# Altium footprint library Fasteners & Fixings.PcbLib: 118 footprints (part 7 of 8)
Each footprint in its own frame and in the unit in brackets; x right, y up, seen from the top. Pads: shape width x height; smd on the part's side, far side on the other; paste and mask are expansions set on the pad; w line width, h text height; cw(c..) or ccw(c..) is an arc to the next point about the centre after c.
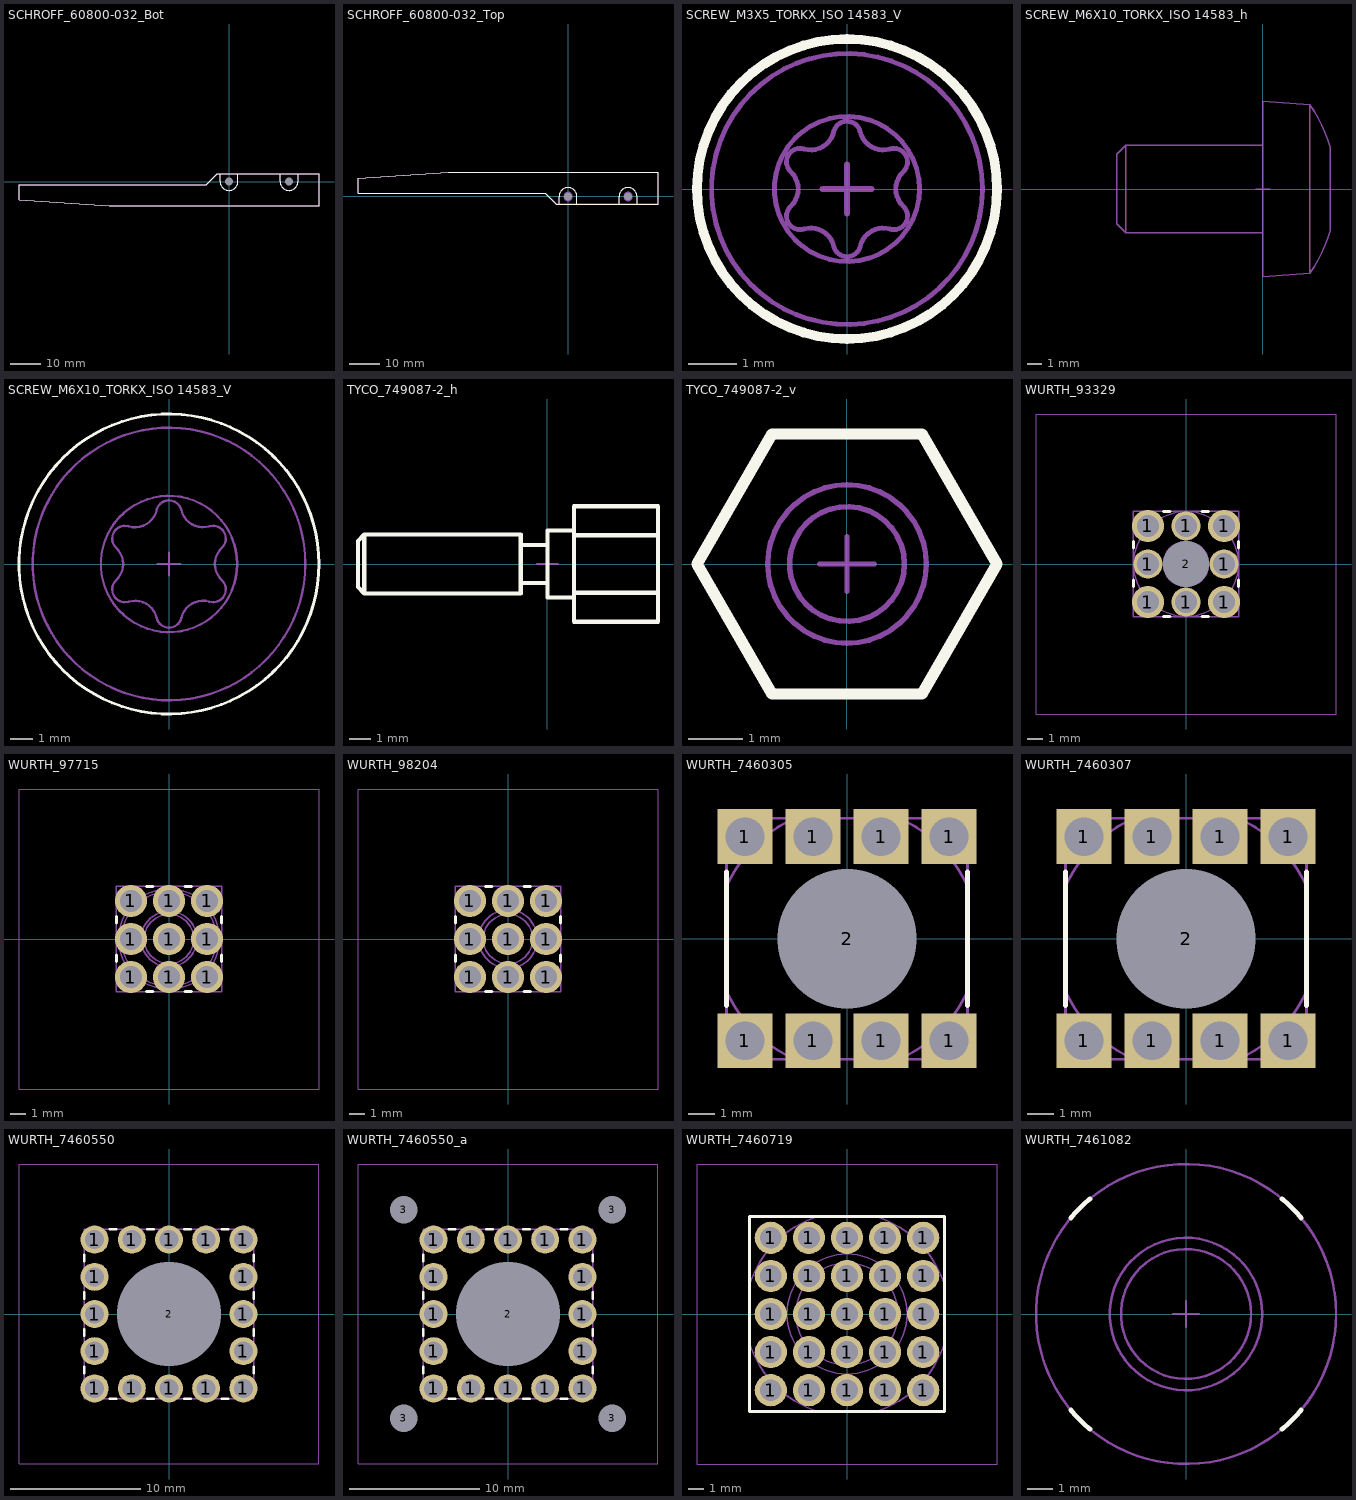
[diagram p6: the footprints below, top view; thin cyan lines are the x and y axes]

## SCHROFF_60800-032_Bot [mm] "Short Guide Rail (100mm)  Without Locking Lever"
height 9.8
pads (2):
  round 1 hole 2.8 unplated mask+0.9: 1(0,0) 1(20,0)
Top Overlay:
  lines w0.2: -3,2.5 -3,0 ccw(c0,0) 3,0 3,2.5 ; 17,2.5 17,0 ccw(c20,0) 23,0 23,2.5 ; -70,-6 -70,-1 -7.5,-1 -4,2.5 30,2.5 30,-8 -40,-8 -70,-6
Mechanical 8:
  lines w0.1: -0.5,0 0,0 ; 0,-0.5 0,0 ; 0,0.5 0,0 ; 0.5,0 0,0 ; 19.5,0 20,0 ; 20,-0.5 20,0 ; 20,0.5 20,0 ; 20.5,0 20,0
Mechanical 14:
  lines w0.1: -3,2.5 -3,0 ccw(c0,0) 3,0 3,2.5 ; 17,2.5 17,0 ccw(c20,0) 23,0 23,2.5 ; -70,-6 -70,-1 -7.5,-1 -4,2.5 30,2.5 30,-8 -40,-8 -70,-6
3D body "SCHROFF_60800-032_Bot.stp": height 4.1, standoff -5.9, extent -70,-8 30,2.5

## SCHROFF_60800-032_Top [mm] "Short Guide Rail (100mm)  Without Locking Lever"
height 9.8
pads (2):
  round 1 hole 2.8 unplated mask+0.9: 1(0,0) 1(20,0)
Top Overlay:
  lines w0.2: -3,-2.5 -3,0 cw(c0,0) 3,0 3,-2.5 ; 17,-2.5 17,0 cw(c20,0) 23,0 23,-2.5 ; -70,1 -7.5,1 -4,-2.5 30,-2.5 30,8 -40,8 -70,6 -70,1
Mechanical 8:
  lines w0.1: -0.5,0 0,0 ; 0,-0.5 0,0 ; 0,0.5 0,0 ; 0.5,0 0,0 ; 19.5,0 20,0 ; 20,-0.5 20,0 ; 20,0.5 20,0 ; 20.5,0 20,0
Mechanical 14:
  circle w0.1: c20,0 r1.4
  circle w0.1: c0,0 r1.4
  lines w0.1: -3,-2.5 -3,0 cw(c0,0) 3,0 3,-2.5 ; 17,-2.5 17,0 cw(c20,0) 23,0 23,-2.5 ; -70,1 -7.5,1 -4,-2.5 30,-2.5 30,8 -40,8 -70,6 -70,1
3D body "SCHROFF_60800-032_Top.stp": height 4.1, standoff -5.9, extent -70,-2.5 30,8

## SCREW_M3X5_TORKX_ISO 14583_V [mm] "Vis TORKX M3X5 ISO 14583 - Vertical Mounting"
height 10
Top Overlay:
  circle w0.2: c0,0 r3.1
Mechanical 8:
  lines w0.127: -0.5,0 0,0 ; 0,-0.5 0,0 ; 0,0.5 0,0 ; 0.5,0 0,0
Mechanical 14:
  circle w0.1: c0,0 r2.8
  circle w0.1: c0,0 r1.5
  lines w0.1: -1.162,-0.356 ccw(c-1.498,0) -1.162,0.356 cw(c-0.97,0.56) -0.89,0.828 ccw(c-0.749,1.298) -0.267,1.21 cw(c-0.001,1.119) 0.272,1.186 ccw(c0.749,1.298) 0.89,0.828 cw(c0.97,0.56) 1.162,0.356 ccw(c1.498,0) 1.162,-0.356 cw(c0.97,-0.56) 0.887,-0.828 ccw(c0.749,-1.298) 0.272,-1.185 cw(c0,-1.12) -0.272,-1.185 ccw(c-0.749,-1.298) -0.89,-0.828 cw(c-0.97,-0.56) -1.162,-0.356
3D body "SCREW_M3X5_TORKX_ISO 14583_v.stp": height 2.4, standoff -5, extent -2.8,-2.8 2.8,2.8

## SCREW_M6X10_TORKX_ISO 14583_h [mm] "Vis TORKX M6X10 ISO 14583 - Horizontal Mount"
height 12
Mechanical 8:
  lines w0.1: -0.5,0 0,0 ; 0,-0.5 0,0 ; 0,0.5 0,0 ; 0.5,0 0,0
Mechanical 14:
  lines w0.1: 0,-3 -9.387,-3 ; 0,3 -9.387,3 ; -9.387,-3 -9.387,3 ; -9.387,-3 -10,-2.387 -10,2.387 -9.387,3 ; 3.225,-5.775 ccw(c-5.257,0) 4.6,-2.85 4.6,2.85 ccw(c-5.257,0) 3.225,5.775 ; 3.225,-5.775 3.225,5.775 ; 3.225,-5.775 0,-6 0,6 3.225,5.775
3D body "SCREW_M6X10_TORKX_ISO 14583_h.stp": height 6, standoff -6, extent -10,-6 4.6,6

## SCREW_M6X10_TORKX_ISO 14583_V [mm] "Vis TORKX M6X10 ISO 14583 - Vertical Mounting"
height 10
Top Overlay:
  circle w0.127: c0,0 r6.6
Mechanical 8:
  lines w0.1: -0.5,0 0,0 ; 0,-0.5 0,0 ; 0,0.5 0,0 ; 0.5,0 0,0
Mechanical 14:
  circle w0.1: c0,0 r6
  circle w0.1: c0,0 r3
  lines w0.1: -2.324,-0.713 ccw(c-2.997,0) -2.324,0.713 cw(c-1.94,1.12) -1.779,1.656 ccw(c-1.498,2.595) -0.534,2.421 cw(c-0.002,2.237) 0.544,2.372 ccw(c1.498,2.595) 1.779,1.656 cw(c1.94,1.12) 2.324,0.713 ccw(c2.997,0) 2.324,-0.713 cw(c1.94,-1.12) 1.774,-1.655 ccw(c1.499,-2.596) 0.545,-2.369 cw(c0,-2.24) -0.545,-2.369 ccw(c-1.498,-2.595) -1.779,-1.656 cw(c-1.94,-1.12) -2.324,-0.713
3D body "VIS_M6X10_TORKX_BN5687_3061952.stp": height 4.6, standoff -10, extent -6,-6 6,6

## TYCO_749087-2_h [mm] "D-Sub Female Screw Locks : Thread Length= 4.39mm, Thread Size: Socket UNC 2-56, Screw UNC 4-40"
height 5.48
Top Overlay:
  lines w0.2: -1.27,-0.9 0,-0.9 ; -1.27,0.9 0,0.9 ; 1.27,-1.6 0,-1.6 0,1.6 1.27,1.6 ; 1.27,-1.371 5.26,-1.371 ; 1.27,1.371 5.26,1.371 ; -8.71,-1.4 -8.71,1.4 ; -8.71,-1.4 -9.01,-1.1 -9.01,1.1 -8.71,1.4 ; -8.71,-1.4 -1.27,-1.4 -1.27,1.4 -8.71,1.4 ; 1.27,-2.742 1.27,2.742 5.26,2.742 5.26,-2.742 1.27,-2.742
Mechanical 8:
  lines w0.1: -0.5,0 0,0 0.5,0
Mechanical 14:
  lines w0.1: -1.27,-0.9 0,-0.9 ; -1.27,0.9 0,0.9 ; 1.27,-1.6 0,-1.6 0,1.6 1.27,1.6 ; 1.27,-1.371 5.26,-1.371 ; 1.27,1.371 5.26,1.371 ; -8.71,-1.4 -8.71,1.4 ; -8.71,-1.4 -9.01,-1.1 -9.01,1.1 -8.71,1.4 ; -8.71,-1.4 -1.27,-1.4 -1.27,1.4 -8.71,1.4 ; 1.27,-2.742 1.27,2.742 5.26,2.742 5.26,-2.742 1.27,-2.742
3D body "TYCO_749087-2_h.stp": height 2.37, standoff -2.37, extent -9.01,-2.742 5.26,2.742

## TYCO_749087-2_v [mm] "D-Sub Female Screw Locks : Thread Length= 4.39mm, Thread Size: Socket UNC 2-56, Screw UNC 4-40"
height 5.26
Top Overlay:
  lines w0.2: -2.742,0 -1.371,2.375 1.371,2.375 2.742,0 1.371,-2.375 -1.371,-2.375 -2.742,0
Mechanical 8:
  lines w0.1: -0.5,0 0,0 ; 0,-0.5 0,0 ; 0,0.5 0,0 ; 0.5,0 0,0
Mechanical 14:
  circle w0.1: c0,0 r1.05
  circle w0.1: c0,0 r1.45
  lines w0.1: -2.742,0 -1.371,2.375 1.371,2.375 2.742,0 1.371,-2.375 -1.371,-2.375 -2.742,0
3D body "TYCO_749087-2_v.stp": height 5.26, standoff -9.01, extent -2.742,-2.375 2.743,2.375

## WURTH_93329 [mm] "7x7x3mm. Bush With Threaded Hole M3, Full Plain Pin-Plate (To Be Used With Pressfit Tool)"
height 3
pads (9):
  round 2.15 hole 1.45: 1(-2.54,-2.54) 1(-2.54,2.54) 1(2.54,-2.54) 1(2.54,2.54)
  round 1.95 hole 1.45: 1(-2.54,0) 1(0,-2.54) 1(0,2.54) 1(2.54,0)
  round 1 hole 3.1 unplated mask+1.05: 2(0,0)
Top Overlay:
  lines w0.2: -3.5,-1.487 -3.5,-1.053 ; -3.5,1.053 -3.5,1.487 ; -1.487,-3.5 -1.053,-3.5 ; -1.487,3.5 -1.053,3.5 ; 1.053,-3.5 1.487,-3.5 ; 1.053,3.5 1.487,3.5 ; 3.5,-1.487 3.5,-1.053 ; 3.5,1.053 3.5,1.487
Bottom Overlay:
  lines w0.2: -10,-10 -10,10 10,10 10,-10 -10,-10
Mechanical 8:
  lines w0.1: -3.04,-2.54 -2.54,-2.54 ; -3.04,0 -2.54,0 ; -3.04,2.54 -2.54,2.54 ; -2.54,-3.04 -2.54,-2.54 ; -2.54,-2.04 -2.54,-2.54 ; -2.54,-0.5 -2.54,0 ; -2.54,0.5 -2.54,0 ; -2.54,2.04 -2.54,2.54 ; -2.54,3.04 -2.54,2.54 ; -2.04,-2.54 -2.54,-2.54 ; -2.04,0 -2.54,0 ; -2.04,2.54 -2.54,2.54 ; -0.5,-2.54 0,-2.54 ; -0.5,0 0,0 ; -0.5,2.54 0,2.54 ; 0,-3.04 0,-2.54 ; 0,-2.04 0,-2.54 ; 0,-0.5 0,0 ; 0,0.5 0,0 ; 0,2.04 0,2.54 ; 0,3.04 0,2.54 ; 0.5,-2.54 0,-2.54 ; 0.5,0 0,0 ; 0.5,2.54 0,2.54 ; 2.04,-2.54 2.54,-2.54 ; 2.04,0 2.54,0 ; 2.04,2.54 2.54,2.54 ; 2.54,-3.04 2.54,-2.54 ; 2.54,-2.04 2.54,-2.54 ; 2.54,-0.5 2.54,0 ; 2.54,0.5 2.54,0 ; 2.54,2.04 2.54,2.54 ; 2.54,3.04 2.54,2.54 ; 3.04,-2.54 2.54,-2.54 ; 3.04,0 2.54,0 ; 3.04,2.54 2.54,2.54
Mechanical 14:
  circle w0.1: c0,0 r1.25
  circle w0.1: c0,0 r1.5
  circle w0.1: c0,0 r3.5
  lines w0.1: -3.5,-3.5 3.5,-3.5 3.5,3.5 -3.5,3.5 -3.5,-3.5
Mechanical 16:
  lines w0.05: -10,-10 -10,10 10,10 10,-10 -10,-10
Drill Drawing:
  lines w0.1: -3.5,-3.5 3.5,-3.5 3.5,3.5 -3.5,3.5 -3.5,-3.5
  text "+0.075 -0.025" at -5.397,-6.35 h1
  text "PRESS-FIT TECH." at -5.715,4.445 h1
  text "diam. 1.45mm" at -4.763,-4.763 h1
3D body "WURTH_93329.stp": height 3, standoff -3.5, extent -3.5,-3.5 3.5,3.5

## WURTH_97715 [mm] "6.7mm Diameter x13mm, M4 Bush, Full Plain Pin-Plate (To Be Used With Pressfit Tool)"
height 13
pads (9):
  round 2.15 hole 1.45: 1(-2.54,-2.54) 1(-2.54,0) 1(-2.54,2.54) 1(0,-2.54) 1(0,0) 1(0,2.54) 1(2.54,-2.54) 1(2.54,0) 1(2.54,2.54)
Top Overlay:
  lines w0.2: -3.5,-1.487 -3.5,-1.053 ; -3.5,1.053 -3.5,1.487 ; -1.487,-3.5 -1.053,-3.5 ; -1.487,3.5 -1.053,3.5 ; 1.053,-3.5 1.487,-3.5 ; 1.053,3.5 1.487,3.5 ; 3.5,-1.487 3.5,-1.053 ; 3.5,1.053 3.5,1.487
Bottom Overlay:
  lines w0.2: -10,-10 -10,10 10,10 10,-10 -10,-10
Mechanical 8:
  lines w0.1: -3.04,-2.54 -2.54,-2.54 ; -3.04,0 -2.54,0 ; -3.04,2.54 -2.54,2.54 ; -2.54,-3.04 -2.54,-2.54 ; -2.54,-2.04 -2.54,-2.54 ; -2.54,-0.5 -2.54,0 ; -2.54,0.5 -2.54,0 ; -2.54,2.04 -2.54,2.54 ; -2.54,3.04 -2.54,2.54 ; -2.04,-2.54 -2.54,-2.54 ; -2.04,0 -2.54,0 ; -2.04,2.54 -2.54,2.54 ; -0.5,-2.54 0,-2.54 ; -0.5,0 0,0 ; -0.5,2.54 0,2.54 ; 0,-3.04 0,-2.54 ; 0,-2.04 0,-2.54 ; 0,-0.5 0,0 ; 0,0.5 0,0 ; 0,2.04 0,2.54 ; 0,3.04 0,2.54 ; 0.5,-2.54 0,-2.54 ; 0.5,0 0,0 ; 0.5,2.54 0,2.54 ; 2.04,-2.54 2.54,-2.54 ; 2.04,0 2.54,0 ; 2.04,2.54 2.54,2.54 ; 2.54,-3.04 2.54,-2.54 ; 2.54,-2.04 2.54,-2.54 ; 2.54,-0.5 2.54,0 ; 2.54,0.5 2.54,0 ; 2.54,2.04 2.54,2.54 ; 2.54,3.04 2.54,2.54 ; 3.04,-2.54 2.54,-2.54 ; 3.04,0 2.54,0 ; 3.04,2.54 2.54,2.54
Mechanical 14:
  circle w0.1: c0,0 r3.35
  circle w0.1: c0,0 r3.15
  circle w0.1: c0,0 r1.85
  circle w0.1: c0,0 r1.65
  lines w0.1: -3.5,-3.5 -3.5,3.5 3.5,3.5 3.5,-3.5 -3.5,-3.5
Mechanical 16:
  lines w0.05: -10,-10 -10,10 10,10 10,-10 -10,-10
Drill Drawing:
  lines w0.1: -3.5,-3.5 3.5,-3.5 3.5,3.5 -3.5,3.5 -3.5,-3.5
  text "+0.075 -0.025" at -5.397,-6.35 h1
  text "PRESS-FIT TECH." at -5.715,4.445 h1
  text "diam. 1.45mm" at -4.763,-4.763 h1
3D body "WURTH_97715.stp": height 13, standoff -3.5, extent -3.5,-3.5 3.5,3.5

## WURTH_98204 [mm] "7x7x14mm, M4 Bush, Full Plain Pin-Plate (To Be Used With Pressfit Tool)"
height 14
pads (9):
  round 2.15 hole 1.45: 1(-2.54,-2.54) 1(-2.54,0) 1(-2.54,2.54) 1(0,-2.54) 1(0,0) 1(0,2.54) 1(2.54,-2.54) 1(2.54,0) 1(2.54,2.54)
Top Overlay:
  lines w0.2: -3.5,-1.487 -3.5,-1.053 ; -3.5,1.053 -3.5,1.487 ; -1.487,-3.5 -1.053,-3.5 ; -1.487,3.5 -1.053,3.5 ; 1.053,-3.5 1.487,-3.5 ; 1.053,3.5 1.487,3.5 ; 3.5,-1.487 3.5,-1.053 ; 3.5,1.053 3.5,1.487
Bottom Overlay:
  lines w0.2: -10,-10 10,-10 10,10 -10,10 -10,-10
Mechanical 8:
  lines w0.1: -3.04,-2.54 -2.54,-2.54 ; -3.04,0 -2.54,0 ; -3.04,2.54 -2.54,2.54 ; -2.54,-3.04 -2.54,-2.54 ; -2.54,-2.04 -2.54,-2.54 ; -2.54,-0.5 -2.54,0 ; -2.54,0.5 -2.54,0 ; -2.54,2.04 -2.54,2.54 ; -2.54,3.04 -2.54,2.54 ; -2.04,-2.54 -2.54,-2.54 ; -2.04,0 -2.54,0 ; -2.04,2.54 -2.54,2.54 ; -0.5,-2.54 0,-2.54 ; -0.5,0 0,0 ; -0.5,2.54 0,2.54 ; 0,-3.04 0,-2.54 ; 0,-2.04 0,-2.54 ; 0,-0.5 0,0 ; 0,0.5 0,0 ; 0,2.04 0,2.54 ; 0,3.04 0,2.54 ; 0.5,-2.54 0,-2.54 ; 0.5,0 0,0 ; 0.5,2.54 0,2.54 ; 2.04,-2.54 2.54,-2.54 ; 2.04,0 2.54,0 ; 2.04,2.54 2.54,2.54 ; 2.54,-3.04 2.54,-2.54 ; 2.54,-2.04 2.54,-2.54 ; 2.54,-0.5 2.54,0 ; 2.54,0.5 2.54,0 ; 2.54,2.04 2.54,2.54 ; 2.54,3.04 2.54,2.54 ; 3.04,-2.54 2.54,-2.54 ; 3.04,0 2.54,0 ; 3.04,2.54 2.54,2.54
Mechanical 14:
  circle w0.1: c0,0 r1.95
  circle w0.1: c0,0 r1.65
  lines w0.1: -3.5,-3.5 -3.5,3.5 3.5,3.5 3.5,-3.5 -3.5,-3.5
Mechanical 16:
  lines w0.05: -10,-10 10,-10 10,10 -10,10 -10,-10
Drill Drawing:
  lines w0.1: -3.5,-3.5 -3.5,3.5 3.5,3.5 3.5,-3.5 -3.5,-3.5
  text "diam. 1.45mm" at -4.763,-4.763 h1
  text "PRESS-FIT TECH." at -5.715,4.445 h1
  text "+0.075 -0.025" at -5.397,-6.35 h1
3D body "WURTH_98204.stp": height 14, standoff -3.5, extent -3.5,-3.5 3.5,3.5

## WURTH_7460305 [mm] "9x9x7mm, M5 Bushe With Two Rows Pin-Plate"
height 7
pads (9):
  rect 2.05x2.05 hole 1.45: 1(-3.81,-3.81) 1(-3.81,3.81) 1(-1.27,-3.81) 1(-1.27,3.81) 1(1.27,-3.81) 1(1.27,3.81) 1(3.81,-3.81) 1(3.81,3.81)
  round 1 hole 5.2 unplated mask+2.1: 2(0,0)
Top Overlay:
  lines w0.2: -4.5,-2.478 -4.5,2.478 ; 4.5,-2.478 4.5,2.478
Mechanical 8:
  lines w0.1: -4.31,-3.81 -3.81,-3.81 ; -4.31,3.81 -3.81,3.81 ; -3.81,-4.31 -3.81,-3.81 ; -3.81,-3.31 -3.81,-3.81 ; -3.81,3.31 -3.81,3.81 ; -3.81,4.31 -3.81,3.81 ; -3.31,-3.81 -3.81,-3.81 ; -3.31,3.81 -3.81,3.81 ; -1.77,-3.81 -1.27,-3.81 ; -1.77,3.81 -1.27,3.81 ; -1.27,-4.31 -1.27,-3.81 ; -1.27,-3.31 -1.27,-3.81 ; -1.27,3.31 -1.27,3.81 ; -1.27,4.31 -1.27,3.81 ; -0.77,-3.81 -1.27,-3.81 ; -0.77,3.81 -1.27,3.81 ; -0.5,0 0,0 ; 0,-0.5 0,0 ; 0,0.5 0,0 ; 0.5,0 0,0 ; 0.77,-3.81 1.27,-3.81 ; 0.77,3.81 1.27,3.81 ; 1.27,-4.31 1.27,-3.81 ; 1.27,-3.31 1.27,-3.81 ; 1.27,3.31 1.27,3.81 ; 1.27,4.31 1.27,3.81 ; 1.77,-3.81 1.27,-3.81 ; 1.77,3.81 1.27,3.81 ; 3.31,-3.81 3.81,-3.81 ; 3.31,3.81 3.81,3.81 ; 3.81,-4.31 3.81,-3.81 ; 3.81,-3.31 3.81,-3.81 ; 3.81,3.31 3.81,3.81 ; 3.81,4.31 3.81,3.81 ; 4.31,-3.81 3.81,-3.81 ; 4.31,3.81 3.81,3.81
Mechanical 14:
  circle w0.1: c0,0 r2.5
  lines w0.1: -4.5,-1.936 ccw(c0,0) -1.936,-4.5 ; -4.5,1.936 cw(c0,0) -1.936,4.5 ; 0,-2.1 cw(c0,0) 2.1,0 ; 1.936,-4.5 ccw(c0,0) 4.5,-1.936 ; 1.936,4.5 cw(c0,0) 4.5,1.936 ; 2.5,4.5 4.5,4.5 ; 4.5,2.5 4.5,4.5 ; 4.5,4.5 -4.5,4.5 -4.5,-4.5 4.5,-4.5 4.5,4.5
Drill Drawing:
  lines w0.1: -5.6,-5.12 5.6,-5.12 5.6,5.1 -5.6,5.1 -5.6,1.5 4.2,1.5 4.2,-1.6 -5.6,-1.6 -5.6,-5.12
  text "PRESS-FIT TECH." at -5.6,5.4 h1
  text "diam. 1.45mm" at -4.9,1.8 h1
  text "+0.075 -0.025" at -5.3,-2.9 h1
3D body "WURTH_7460305.stp": height 7, standoff -3.5, extent -4.5,-4.5 4.5,4.5

## WURTH_7460307 [mm] "9x9x7mm, M4 Bushe With Two Rows Pin-Plate"
height 7
pads (9):
  rect 2.05x2.05 hole 1.45: 1(-3.81,-3.81) 1(-3.81,3.81) 1(-1.27,-3.81) 1(-1.27,3.81) 1(1.27,-3.81) 1(1.27,3.81) 1(3.81,-3.81) 1(3.81,3.81)
  round 1 hole 5.2 unplated mask+2.1: 2(0,0)
Top Overlay:
  lines w0.2: -4.5,-2.478 -4.5,2.478 ; 4.5,-2.478 4.5,2.478
Mechanical 8:
  lines w0.1: -4.31,-3.81 -3.81,-3.81 ; -4.31,3.81 -3.81,3.81 ; -3.81,-4.31 -3.81,-3.81 ; -3.81,-3.31 -3.81,-3.81 ; -3.81,3.31 -3.81,3.81 ; -3.81,4.31 -3.81,3.81 ; -3.31,-3.81 -3.81,-3.81 ; -3.31,3.81 -3.81,3.81 ; -1.77,-3.81 -1.27,-3.81 ; -1.77,3.81 -1.27,3.81 ; -1.27,-4.31 -1.27,-3.81 ; -1.27,-3.31 -1.27,-3.81 ; -1.27,3.31 -1.27,3.81 ; -1.27,4.31 -1.27,3.81 ; -0.77,-3.81 -1.27,-3.81 ; -0.77,3.81 -1.27,3.81 ; -0.5,0 0,0 ; 0,-0.5 0,0 ; 0,0.5 0,0 ; 0.5,0 0,0 ; 0.77,-3.81 1.27,-3.81 ; 0.77,3.81 1.27,3.81 ; 1.27,-4.31 1.27,-3.81 ; 1.27,-3.31 1.27,-3.81 ; 1.27,3.31 1.27,3.81 ; 1.27,4.31 1.27,3.81 ; 1.77,-3.81 1.27,-3.81 ; 1.77,3.81 1.27,3.81 ; 3.31,-3.81 3.81,-3.81 ; 3.31,3.81 3.81,3.81 ; 3.81,-4.31 3.81,-3.81 ; 3.81,-3.31 3.81,-3.81 ; 3.81,3.31 3.81,3.81 ; 3.81,4.31 3.81,3.81 ; 4.31,-3.81 3.81,-3.81 ; 4.31,3.81 3.81,3.81
Mechanical 14:
  circle w0.1: c0,0 r2.5
  lines w0.1: -4.5,-1.936 ccw(c0,0) -1.936,-4.5 ; -4.5,1.936 cw(c0,0) -1.936,4.5 ; 0,-2.1 cw(c0,0) 2.1,0 ; 1.936,-4.5 ccw(c0,0) 4.5,-1.936 ; 1.936,4.5 cw(c0,0) 4.5,1.936 ; 2.5,4.5 4.5,4.5 ; 4.5,2.5 4.5,4.5 ; 4.5,4.5 4.5,-4.5 -4.5,-4.5 -4.5,4.5 4.5,4.5
Drill Drawing:
  lines w0.1: -5.6,-5.12 -5.6,-1.6 4.2,-1.6 4.2,1.5 -5.6,1.5 -5.6,5.1 5.6,5.1 5.6,-5.12 -5.6,-5.12
  text "PRESS-FIT TECH." at -5.6,5.4 h1
  text "diam. 1.45mm" at -4.9,1.8 h1
  text "+/-0.05" at -3.4,-2.9 h1
3D body "WURTH_7460307.stp": height 7, standoff -3.5, extent -4.5,-4.5 4.5,4.5

## WURTH_7460550 [mm] "13x13x3.1mm, Bush With 7.3mm Hole Diameter, 16 Plain Pin-Plate (To Be Used With Pressfit Tool)"
height 3.1
pads (17):
  round 2.15 hole 1.45: 1(-5.7,-5.7) 1(-5.7,-2.85) 1(-5.7,0) 1(-5.7,2.85) 1(-5.7,5.7) 1(-2.85,-5.7) 1(-2.85,5.7) 1(0,-5.7) 1(0,5.7) 1(2.85,-5.7) 1(2.85,5.7) 1(5.7,-5.7) 1(5.7,-2.85) 1(5.7,0) 1(5.7,2.85) 1(5.7,5.7)
  round 1 hole 8 unplated mask+3.5: 2(0,0)
Top Overlay:
  lines w0.2: -6.5,-4.521 -6.5,-4.029 ; -6.5,-1.671 -6.5,-1.179 ; -6.5,1.179 -6.5,1.671 ; -6.5,4.029 -6.5,4.521 ; -4.521,-6.5 -4.029,-6.5 ; -4.521,6.5 -4.029,6.5 ; -1.671,-6.5 -1.179,-6.5 ; -1.671,6.5 -1.179,6.5 ; 1.179,-6.5 1.671,-6.5 ; 1.179,6.5 1.671,6.5 ; 4.029,-6.5 4.521,-6.5 ; 4.029,6.5 4.521,6.5 ; 6.5,-4.521 6.5,-4.029 ; 6.5,-1.671 6.5,-1.179 ; 6.5,1.179 6.5,1.671 ; 6.5,4.029 6.5,4.521
Bottom Overlay:
  lines w0.2: -11.5,-11.5 -11.5,11.5 11.5,11.5 11.5,-11.5 -11.5,-11.5
Mechanical 8:
  circle w0.1: c0,0 r3.75
  lines w0.1: -6.2,-5.7 -5.7,-5.7 ; -6.2,-2.85 -5.7,-2.85 ; -6.2,0 -5.7,0 ; -6.2,2.85 -5.7,2.85 ; -6.2,5.7 -5.7,5.7 ; -5.7,-6.2 -5.7,-5.7 ; -5.7,-5.2 -5.7,-5.7 ; -5.7,-3.35 -5.7,-2.85 ; -5.7,-2.35 -5.7,-2.85 ; -5.7,-0.5 -5.7,0 ; -5.7,0.5 -5.7,0 ; -5.7,2.35 -5.7,2.85 ; -5.7,3.35 -5.7,2.85 ; -5.7,5.2 -5.7,5.7 ; -5.7,6.2 -5.7,5.7 ; -5.2,-5.7 -5.7,-5.7 ; -5.2,-2.85 -5.7,-2.85 ; -5.2,0 -5.7,0 ; -5.2,2.85 -5.7,2.85 ; -5.2,5.7 -5.7,5.7 ; -3.35,-5.7 -2.85,-5.7 ; -3.35,5.7 -2.85,5.7 ; -2.85,-6.2 -2.85,-5.7 ; -2.85,-5.2 -2.85,-5.7 ; -2.85,5.2 -2.85,5.7 ; -2.85,6.2 -2.85,5.7 ; -2.35,-5.7 -2.85,-5.7 ; -2.35,5.7 -2.85,5.7 ; -0.5,-5.7 0,-5.7 ; -0.5,0 0,0 ; -0.5,5.7 0,5.7 ; 0,-6.2 0,-5.7 ; 0,-5.2 0,-5.7 ; 0,-0.5 0,0 ; 0,0.5 0,0 ; 0,5.2 0,5.7 ; 0,6.2 0,5.7 ; 0.5,-5.7 0,-5.7 ; 0.5,0 0,0 ; 0.5,5.7 0,5.7 ; 2.35,-5.7 2.85,-5.7 ; 2.35,5.7 2.85,5.7 ; 2.85,-6.2 2.85,-5.7 ; 2.85,-5.2 2.85,-5.7 ; 2.85,5.2 2.85,5.7 ; 2.85,6.2 2.85,5.7 ; 3.35,-5.7 2.85,-5.7 ; 3.35,5.7 2.85,5.7 ; 5.2,-5.7 5.7,-5.7 ; 5.2,-2.85 5.7,-2.85 ; 5.2,0 5.7,0 ; 5.2,2.85 5.7,2.85 ; 5.2,5.7 5.7,5.7 ; 5.7,-6.2 5.7,-5.7 ; 5.7,-5.2 5.7,-5.7 ; 5.7,-3.35 5.7,-2.85 ; 5.7,-2.35 5.7,-2.85 ; 5.7,-0.5 5.7,0 ; 5.7,0.5 5.7,0 ; 5.7,2.35 5.7,2.85 ; 5.7,3.35 5.7,2.85 ; 5.7,5.2 5.7,5.7 ; 5.7,6.2 5.7,5.7 ; 6.2,-5.7 5.7,-5.7 ; 6.2,-2.85 5.7,-2.85 ; 6.2,0 5.7,0 ; 6.2,2.85 5.7,2.85 ; 6.2,5.7 5.7,5.7
Mechanical 14:
  circle w0.1: c0,0 r3.65
  lines w0.1: -6.5,-6.5 -6.5,6.5 6.5,6.5 6.5,-6.5 -6.5,-6.5
Mechanical 16:
  lines w0.05: -11.5,-11.5 11.5,-11.5 11.5,11.5 -11.5,11.5 -11.5,-11.5
Drill Drawing:
  lines w0.1: -6.5,-6.5 6.5,-6.5 6.5,6.5 -6.5,6.5 -6.5,-6.5
  text "+0.075 -0.025" at -5.3,-2.1 h1
  text "PRESS-FIT TECH." at -5.875,3.275 h1
  text "diam. 1.45mm" at -5,1.2 h1
3D body "WURTH_7460550.stp": height 3.1, standoff -3.5, extent -6.5,-6.5 6.5,6.5

## WURTH_7460550_a [mm] "13x13x3.1mm, Bush With 7.3mm Hole Diameter, 16 Plain Pin-Plate (To Be Used With Pressfit Tool)"
height 3.1
pads (21):
  round 2.15 hole 1.45: 1(-5.7,-5.7) 1(-5.7,-2.85) 1(-5.7,0) 1(-5.7,2.85) 1(-5.7,5.7) 1(-2.85,-5.7) 1(-2.85,5.7) 1(0,-5.7) 1(0,5.7) 1(2.85,-5.7) 1(2.85,5.7) 1(5.7,-5.7) 1(5.7,-2.85) 1(5.7,0) 1(5.7,2.85) 1(5.7,5.7)
  round 1 hole 8 unplated mask+3.5: 2(0,0)
  round 1 hole 2.1 unplated mask+0.55: 3(-8,-8) 3(-8,8) 3(8,-8) 3(8,8)
Top Overlay:
  lines w0.2: -6.5,-4.521 -6.5,-4.029 ; -6.5,-1.671 -6.5,-1.179 ; -6.5,1.179 -6.5,1.671 ; -6.5,4.029 -6.5,4.521 ; -4.521,-6.5 -4.029,-6.5 ; -4.521,6.5 -4.029,6.5 ; -1.671,-6.5 -1.179,-6.5 ; -1.671,6.5 -1.179,6.5 ; 1.179,-6.5 1.671,-6.5 ; 1.179,6.5 1.671,6.5 ; 4.029,-6.5 4.521,-6.5 ; 4.029,6.5 4.521,6.5 ; 6.5,-4.521 6.5,-4.029 ; 6.5,-1.671 6.5,-1.179 ; 6.5,1.179 6.5,1.671 ; 6.5,4.029 6.5,4.521
Bottom Overlay:
  lines w0.2: -11.5,-11.5 11.5,-11.5 11.5,11.5 -11.5,11.5 -11.5,-11.5
Mechanical 8:
  circle w0.1: c0,0 r3.75
  lines w0.1: -6.2,-5.7 -5.7,-5.7 ; -6.2,-2.85 -5.7,-2.85 ; -6.2,0 -5.7,0 ; -6.2,2.85 -5.7,2.85 ; -6.2,5.7 -5.7,5.7 ; -5.7,-6.2 -5.7,-5.7 ; -5.7,-5.2 -5.7,-5.7 ; -5.7,-3.35 -5.7,-2.85 ; -5.7,-2.35 -5.7,-2.85 ; -5.7,-0.5 -5.7,0 ; -5.7,0.5 -5.7,0 ; -5.7,2.35 -5.7,2.85 ; -5.7,3.35 -5.7,2.85 ; -5.7,5.2 -5.7,5.7 ; -5.7,6.2 -5.7,5.7 ; -5.2,-5.7 -5.7,-5.7 ; -5.2,-2.85 -5.7,-2.85 ; -5.2,0 -5.7,0 ; -5.2,2.85 -5.7,2.85 ; -5.2,5.7 -5.7,5.7 ; -3.35,-5.7 -2.85,-5.7 ; -3.35,5.7 -2.85,5.7 ; -2.85,-6.2 -2.85,-5.7 ; -2.85,-5.2 -2.85,-5.7 ; -2.85,5.2 -2.85,5.7 ; -2.85,6.2 -2.85,5.7 ; -2.35,-5.7 -2.85,-5.7 ; -2.35,5.7 -2.85,5.7 ; -0.5,-5.7 0,-5.7 ; -0.5,0 0,0 ; -0.5,5.7 0,5.7 ; 0,-6.2 0,-5.7 ; 0,-5.2 0,-5.7 ; 0,-0.5 0,0 ; 0,0.5 0,0 ; 0,5.2 0,5.7 ; 0,6.2 0,5.7 ; 0.5,-5.7 0,-5.7 ; 0.5,0 0,0 ; 0.5,5.7 0,5.7 ; 2.35,-5.7 2.85,-5.7 ; 2.35,5.7 2.85,5.7 ; 2.85,-6.2 2.85,-5.7 ; 2.85,-5.2 2.85,-5.7 ; 2.85,5.2 2.85,5.7 ; 2.85,6.2 2.85,5.7 ; 3.35,-5.7 2.85,-5.7 ; 3.35,5.7 2.85,5.7 ; 5.2,-5.7 5.7,-5.7 ; 5.2,-2.85 5.7,-2.85 ; 5.2,0 5.7,0 ; 5.2,2.85 5.7,2.85 ; 5.2,5.7 5.7,5.7 ; 5.7,-6.2 5.7,-5.7 ; 5.7,-5.2 5.7,-5.7 ; 5.7,-3.35 5.7,-2.85 ; 5.7,-2.35 5.7,-2.85 ; 5.7,-0.5 5.7,0 ; 5.7,0.5 5.7,0 ; 5.7,2.35 5.7,2.85 ; 5.7,3.35 5.7,2.85 ; 5.7,5.2 5.7,5.7 ; 5.7,6.2 5.7,5.7 ; 6.2,-5.7 5.7,-5.7 ; 6.2,-2.85 5.7,-2.85 ; 6.2,0 5.7,0 ; 6.2,2.85 5.7,2.85 ; 6.2,5.7 5.7,5.7
Mechanical 14:
  circle w0.1: c0,0 r3.65
  lines w0.1: -6.5,-6.5 6.5,-6.5 6.5,6.5 -6.5,6.5 -6.5,-6.5
Mechanical 16:
  lines w0.05: -11.5,-11.5 -11.5,11.5 11.5,11.5 11.5,-11.5 -11.5,-11.5
Drill Drawing:
  lines w0.1: -6.5,-6.5 -6.5,6.5 6.5,6.5 6.5,-6.5 -6.5,-6.5
  text "diam. 1.45mm" at -5,1.2 h1
  text "PRESS-FIT TECH." at -5.875,3.275 h1
  text "+0.075 -0.025" at -5.3,-2.1 h1
3D body "WURTH_7460550.stp": height 3.1, standoff -3.5, extent -6.5,-6.5 6.5,6.5

## WURTH_7460719 [mm] "13x13x20.3mm, Threaded Shank M8, Full Plain Pin-Plate (To Be Used With Pressfit Tool)"
height 20.3
pads (25):
  round 2.15 hole 1.45: 1(-5.08,-5.08) 1(-5.08,-2.54) 1(-5.08,0) 1(-5.08,2.54) 1(-5.08,5.08) 1(-2.54,-5.08) 1(-2.54,-2.54) 1(-2.54,0) 1(-2.54,2.54) 1(-2.54,5.08) 1(0,-5.08) 1(0,-2.54) 1(0,0) 1(0,2.54) 1(0,5.08) 1(2.54,-5.08) 1(2.54,-2.54) 1(2.54,0) 1(2.54,2.54) 1(2.54,5.08) 1(5.08,-5.08) 1(5.08,-2.54) 1(5.08,0) 1(5.08,2.54) 1(5.08,5.08)
Top Overlay:
  lines w0.2: -6.5,-6.5 -6.5,6.5 6.5,6.5 6.5,-6.5 -6.5,-6.5
Bottom Overlay:
  lines w0.2: -10,-10 10,-10 10,10 -10,10 -10,-10
Mechanical 8:
  lines w0.1: -5.58,-5.08 -5.08,-5.08 ; -5.58,-2.54 -5.08,-2.54 ; -5.58,0 -5.08,0 ; -5.58,2.54 -5.08,2.54 ; -5.58,5.08 -5.08,5.08 ; -5.08,-5.58 -5.08,-5.08 ; -5.08,-4.58 -5.08,-5.08 ; -5.08,-3.04 -5.08,-2.54 ; -5.08,-2.04 -5.08,-2.54 ; -5.08,-0.5 -5.08,0 ; -5.08,0.5 -5.08,0 ; -5.08,2.04 -5.08,2.54 ; -5.08,3.04 -5.08,2.54 ; -5.08,4.58 -5.08,5.08 ; -5.08,5.58 -5.08,5.08 ; -4.58,-5.08 -5.08,-5.08 ; -4.58,-2.54 -5.08,-2.54 ; -4.58,0 -5.08,0 ; -4.58,2.54 -5.08,2.54 ; -4.58,5.08 -5.08,5.08 ; -3.04,-5.08 -2.54,-5.08 ; -3.04,-2.54 -2.54,-2.54 ; -3.04,0 -2.54,0 ; -3.04,2.54 -2.54,2.54 ; -3.04,5.08 -2.54,5.08 ; -2.54,-5.58 -2.54,-5.08 ; -2.54,-4.58 -2.54,-5.08 ; -2.54,-3.04 -2.54,-2.54 ; -2.54,-2.04 -2.54,-2.54 ; -2.54,-0.5 -2.54,0 ; -2.54,0.5 -2.54,0 ; -2.54,2.04 -2.54,2.54 ; -2.54,3.04 -2.54,2.54 ; -2.54,4.58 -2.54,5.08 ; -2.54,5.58 -2.54,5.08 ; -2.04,-5.08 -2.54,-5.08 ; -2.04,-2.54 -2.54,-2.54 ; -2.04,0 -2.54,0 ; -2.04,2.54 -2.54,2.54 ; -2.04,5.08 -2.54,5.08 ; -0.5,-5.08 0,-5.08 ; -0.5,-2.54 0,-2.54 ; -0.5,0 0,0 ; -0.5,2.54 0,2.54 ; -0.5,5.08 0,5.08 ; 0,-5.58 0,-5.08 ; 0,-4.58 0,-5.08 ; 0,-3.04 0,-2.54 ; 0,-2.04 0,-2.54 ; 0,-0.5 0,0 ; 0,0.5 0,0 ; 0,2.04 0,2.54 ; 0,3.04 0,2.54 ; 0,4.58 0,5.08 ; 0,5.58 0,5.08 ; 0.5,-5.08 0,-5.08 ; 0.5,-2.54 0,-2.54 ; 0.5,0 0,0 ; 0.5,2.54 0,2.54 ; 0.5,5.08 0,5.08 ; 2.04,-5.08 2.54,-5.08 ; 2.04,-2.54 2.54,-2.54 ; 2.04,0 2.54,0 ; 2.04,2.54 2.54,2.54 ; 2.04,5.08 2.54,5.08 ; 2.54,-5.58 2.54,-5.08 ; 2.54,-4.58 2.54,-5.08 ; 2.54,-3.04 2.54,-2.54 ; 2.54,-2.04 2.54,-2.54 ; 2.54,-0.5 2.54,0 ; 2.54,0.5 2.54,0 ; 2.54,2.04 2.54,2.54 ; 2.54,3.04 2.54,2.54 ; 2.54,4.58 2.54,5.08 ; 2.54,5.58 2.54,5.08 ; 3.04,-5.08 2.54,-5.08 ; 3.04,-2.54 2.54,-2.54 ; 3.04,0 2.54,0 ; 3.04,2.54 2.54,2.54 ; 3.04,5.08 2.54,5.08 ; 4.58,-5.08 5.08,-5.08 ; 4.58,-2.54 5.08,-2.54 ; 4.58,0 5.08,0 ; 4.58,2.54 5.08,2.54 ; 4.58,5.08 5.08,5.08 ; 5.08,-5.58 5.08,-5.08 ; 5.08,-4.58 5.08,-5.08 ; 5.08,-3.04 5.08,-2.54 ; 5.08,-2.04 5.08,-2.54 ; 5.08,-0.5 5.08,0 ; 5.08,0.5 5.08,0 ; 5.08,2.04 5.08,2.54 ; 5.08,3.04 5.08,2.54 ; 5.08,4.58 5.08,5.08 ; 5.08,5.58 5.08,5.08 ; 5.58,-5.08 5.08,-5.08 ; 5.58,-2.54 5.08,-2.54 ; 5.58,0 5.08,0 ; 5.58,2.54 5.08,2.54 ; 5.58,5.08 5.08,5.08
Mechanical 14:
  circle w0.1: c0,0 r4
  circle w0.1: c0,0 r3.4
  lines w0.1: -6.5,-1.881 ccw(c0,0) -1.881,-6.5 ; -6.5,1.881 cw(c0,0) -1.881,6.5 ; 1.881,-6.5 ccw(c0,0) 6.5,-1.881 ; 1.881,6.5 cw(c0,0) 6.5,1.881 ; -6.5,-6.5 -6.5,6.5 6.5,6.5 6.5,-6.5 -6.5,-6.5
Mechanical 16:
  lines w0.05: -10,-10 10,-10 10,10 -10,10 -10,-10
Drill Drawing:
  lines w0.1: -6.5,-6.5 6.5,-6.5 6.5,6.5 -6.5,6.5 -6.5,-6.5
  text "PRESS-FIT TECH." at -5.875,3.275 h1
  text "diam. 1.45mm" at -5.05,0.825 h1
  text "+0.075 -0.025" at -5.6,-1.625 h1
3D body "WURTH_7460719.stp": height 20.5, standoff -3.5, extent -6.5,-6.5 6.5,6.5

## WURTH_7461082 [mm] "12mm Diameter, Support Element Bush with Internal Hole 5.2mm"
height 8.4
Top Overlay:
  lines w0.2: -4.609,-3.842 ccw(c0,0) -3.842,-4.609 ; -4.609,3.842 cw(c0,0) -3.842,4.609 ; 3.842,-4.609 ccw(c0,0) 4.609,-3.842 ; 3.842,4.609 cw(c0,0) 4.609,3.842
Mechanical 8:
  lines w0.1: -0.5,0 0,0 ; 0,-0.5 0,0 ; 0,0.5 0,0 ; 0.5,0 0,0
Mechanical 14:
  circle w0.1: c0,0 r2.6
  circle w0.1: c0,0 r3.05
  circle w0.1: c0,0 r6
3D body "WURTH_7461082.stp": height 2, standoff -6.4, extent -6,-5.998 6,5.998